# Altium footprint library mh.PcbLib: 25 footprints (part 2 of 2)
Each footprint in its own frame and in the unit in brackets; x right, y up, seen from the top. Pads: shape width x height; smd on the part's side, far side on the other; paste and mask are expansions set on the pad; w line width, h text height; cw(c..) or ccw(c..) is an arc to the next point about the centre after c.
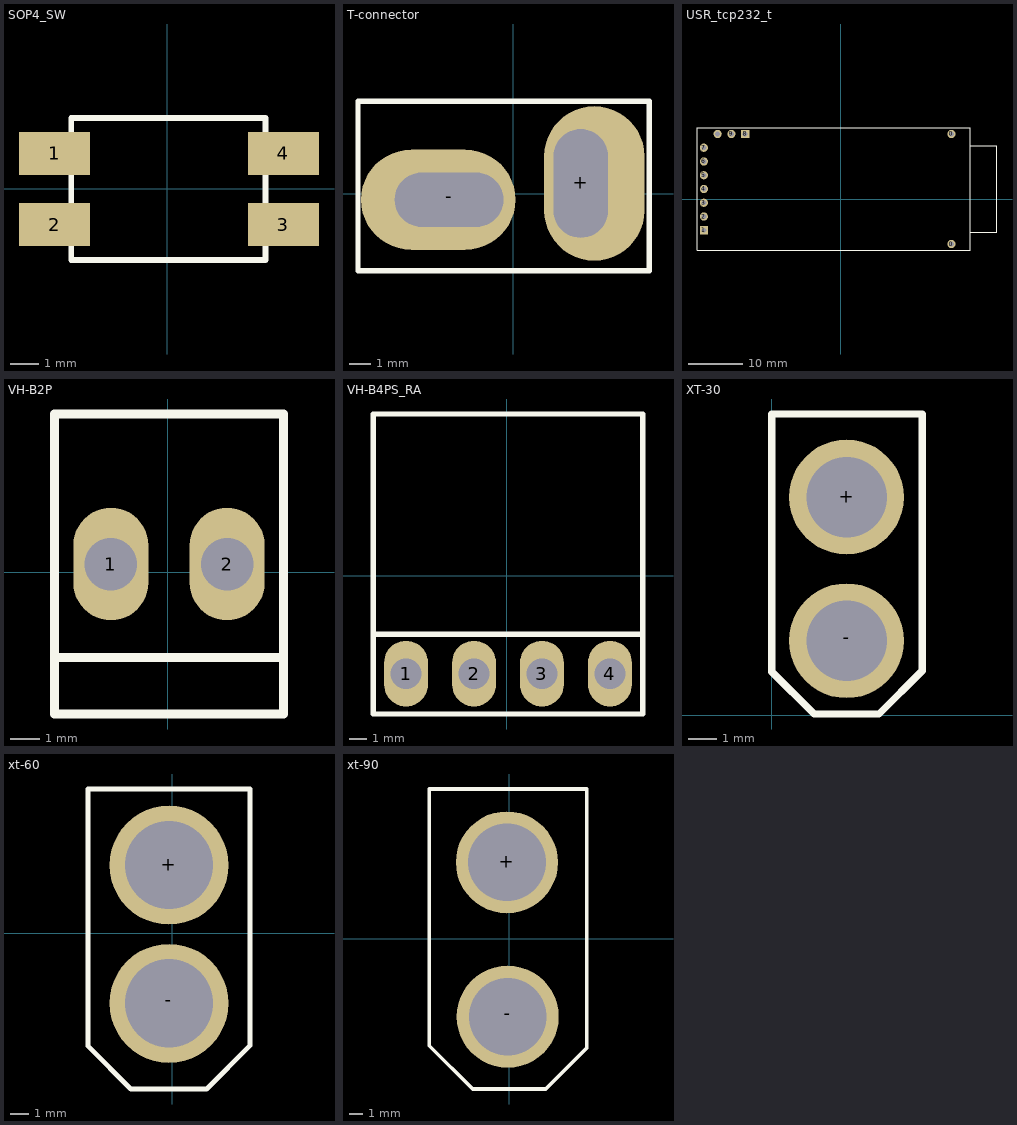
[diagram p1: the footprints below, top view; thin cyan lines are the x and y axes]

## SOP2 [mil]

## SOP4_SW [mm]
pads (4):
  rect 2.5x1.5 smd: 1(-3.962,1.245) 2(-3.962,-1.255) 3(4.088,-1.255) 4(4.088,1.245)
Top Overlay:
  lines w0.2: -3.378,-2.505 3.454,-2.505 3.454,2.495 -3.378,2.495 -3.378,-2.505

## T-connector [mil]
pads (2):
  oval 185x285 hole 100 slot 200 at 90 deg copper offset 25,0: +(125,19)
  oval 285x185 hole 100 slot 200 at 0 deg copper offset -20,0: -(-118,-11)
Top Overlay:
  lines w10: -286,-142 251,-142 251,171 -286,171 -286,-142
3D body "Deans-Male.SLDPRT": height 541.26, standoff -202.83, extent -275.43,-135.64 260,159.64

## USR_tcp232_t [mil]
pads (12):
  round 60 hole 35.43: 0(805,-326) 0(805,474) 2(-995,-126) 3(-995,-26) 4(-995,74) 5(-995,174) 6(-995,274) 7(-995,374) 9(-795,474) 10(-895,474)
  rect 60x60 hole 35.43: 1(-995,-226) 8(-695,474)
Top Overlay:
  lines w8: 942.2,-240.8 1136.4,-240.8 1136.4,389.2 942.2,389.2 ; -1045,-371 942,-371 942,519 -1045,519 -1045,-371
Mechanical 3:
  text "RST" at -922,45 h60
  text "RXD" at -922,245 h60
  text "TXD" at -922,145 h60
  text "GND" at -922,-55 h60
  text "VCC" at -922,-155 h60
  text "VDD" at -922,-255 h60
  text "CFG" at -922,345 h60
  text "USR-TCP232-T" at -472.36,50.38 h80

## VH-B2P [mil]
pads (2):
  oval 100x150 hole 70: 1(-75.5,11) 2(79.5,11)
Top Overlay:
  lines w12: -150.5,-114 154.5,-114 ; -150.5,-189 154.5,-189 154.5,211 -150.5,211 -150.5,-189
3D body "B2P-VH.STEP": height 429.13, standoff -145.67, extent -150.72,-131.32 158.72,203.32

## VH-B4PS_RA [mil]
pads (4):
  oval 100x150 hole 70: 1(-229.5,-223) 2(-74.5,-223) 3(80.5,-223) 4(235.5,-223)
Top Overlay:
  lines w12: -303.5,-133 307,-133 ; -304.5,-315 310.5,-315 310.5,369 -304.5,369 -304.5,-315
3D body "B4PS-VH.STEP": height 334.65, standoff -141.73, extent -308.63,-247.96 312.63,361.09

## XT-30 [mm]
pads (2):
  round 4 hole 2.8: +(2.6,7.6) -(2.6,2.6)
Top Overlay:
  lines w0.254: 0,10.49 0,1.524 1.473,0.051 3.727,0.051 5.232,1.556 5.232,10.49 0.051,10.49
3D body "XT30(2).STEP": height 13.5, standoff -2, extent 0.008,0.007 5.258,10.457

## xt-60 [mil]
pads (2):
  round 250 hole 185: +(-6.6,142.68) -(-6.6,-147.32)
Top Overlay:
  lines w10: -176.6,-237.32 -86.6,-327.32 72.4,-327.32 163.4,-236.32 163.4,302.68 -176.6,302.68 -176.6,-237.32
3D body "XT60 Stecker.stp": height 645.67, standoff -196.85, extent -162,-309.09 152.96,305.09

## xt-90 [mil]
pads (2):
  round 289.37 hole 220: +(-6,216) -(-4,-221)
Top Overlay:
  lines w10: -226,-303 -103,-426 104,-426 220,-310 220,424 -226,424 -226,-303
3D body "xt90_male_asm.stp": height 216.54, standoff -814.96, extent -226.07,-423.26 207,419.26